# Altium footprint library Keyfinder.PcbLib: 2 footprints
Each footprint in its own frame and in the unit in brackets; x right, y up, seen from the top. Pads: shape width x height; smd on the part's side, far side on the other; paste and mask are expansions set on the pad; w line width, h text height; cw(c..) or ccw(c..) is an arc to the next point about the centre after c.
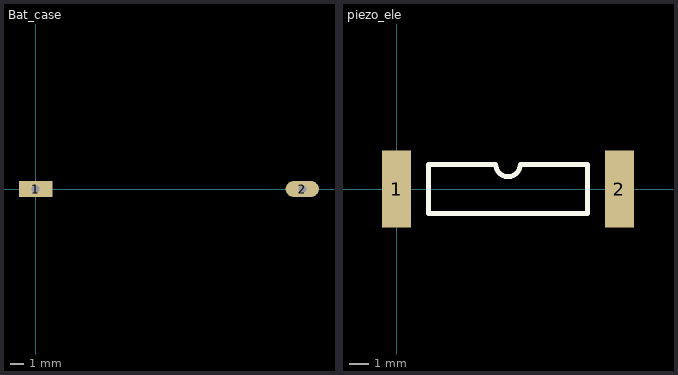
[diagram p0: the footprints below, top view; thin cyan lines are the x and y axes]

## Bat_case [mm]
pads (2):
  rect 2.5x1.2 hole 0.6: 1(0,0)
  oval 2.5x1.2 hole 0.6: 2(20,0)

## piezo_ele [mm]
pads (2):
  rect 1.5x4 smd: 1(0,0) 2(11.5,0)
Top Overlay:
  lines w0.254: 1.639,-1.27 1.639,1.27 5.115,1.27 ccw(c5.75,1.27) 6.385,1.27 9.861,1.27 9.861,-1.27 1.639,-1.27